# EAGLE library part ATTINY85 (library KaiBader-Microcontrollers)
Atmel ATtiny85 Microcontroller 8-bit AVR Microcontroller, 8KB Flash Pin-compatible to ATtiny25, ATtiny45
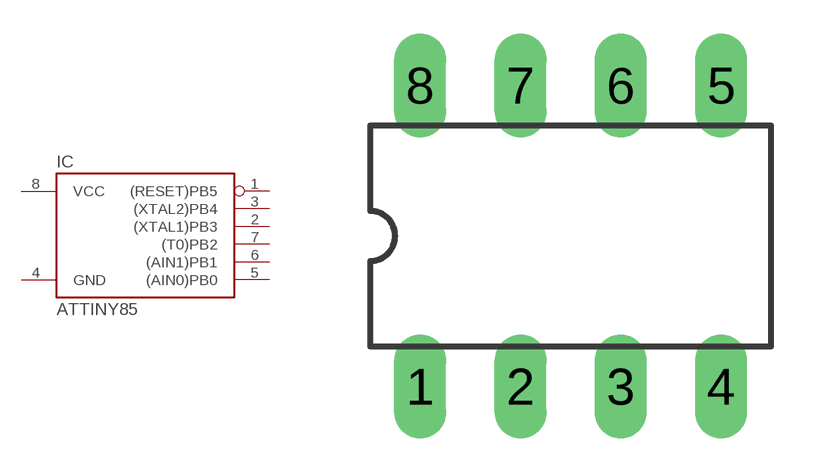
[diagram p6: symbol with the pads of DIL08; footprint DIL08]

Designator prefix IC

## ATTINY85  [DIL08]
1  (RESET)PB5
2  (XTAL1)PB3
3  (XTAL2)PB4
4  GND  pwr
5  (AIN0)PB0
6  (AIN1)PB1
7  (T0)PB2
8  VCC  pwr

## Footprint DIL08 (pad centres in mm)
Dual In Line Package
drill 0.813 long: 1 -3.81,-3.81; 2 -1.27,-3.81; 3 1.27,-3.81; 4 3.81,-3.81; 5 3.81,3.81; 6 1.27,3.81; 7 -1.27,3.81; 8 -3.81,3.81